# Altium schematic symbol library SCH - MCU - STM32 - ST MICROELECTRONICS STM32MP151DAAX LFBGA448.SchLib: 1 symbol
Pins are listed as number, name and electrical type; pins without a type are passive.

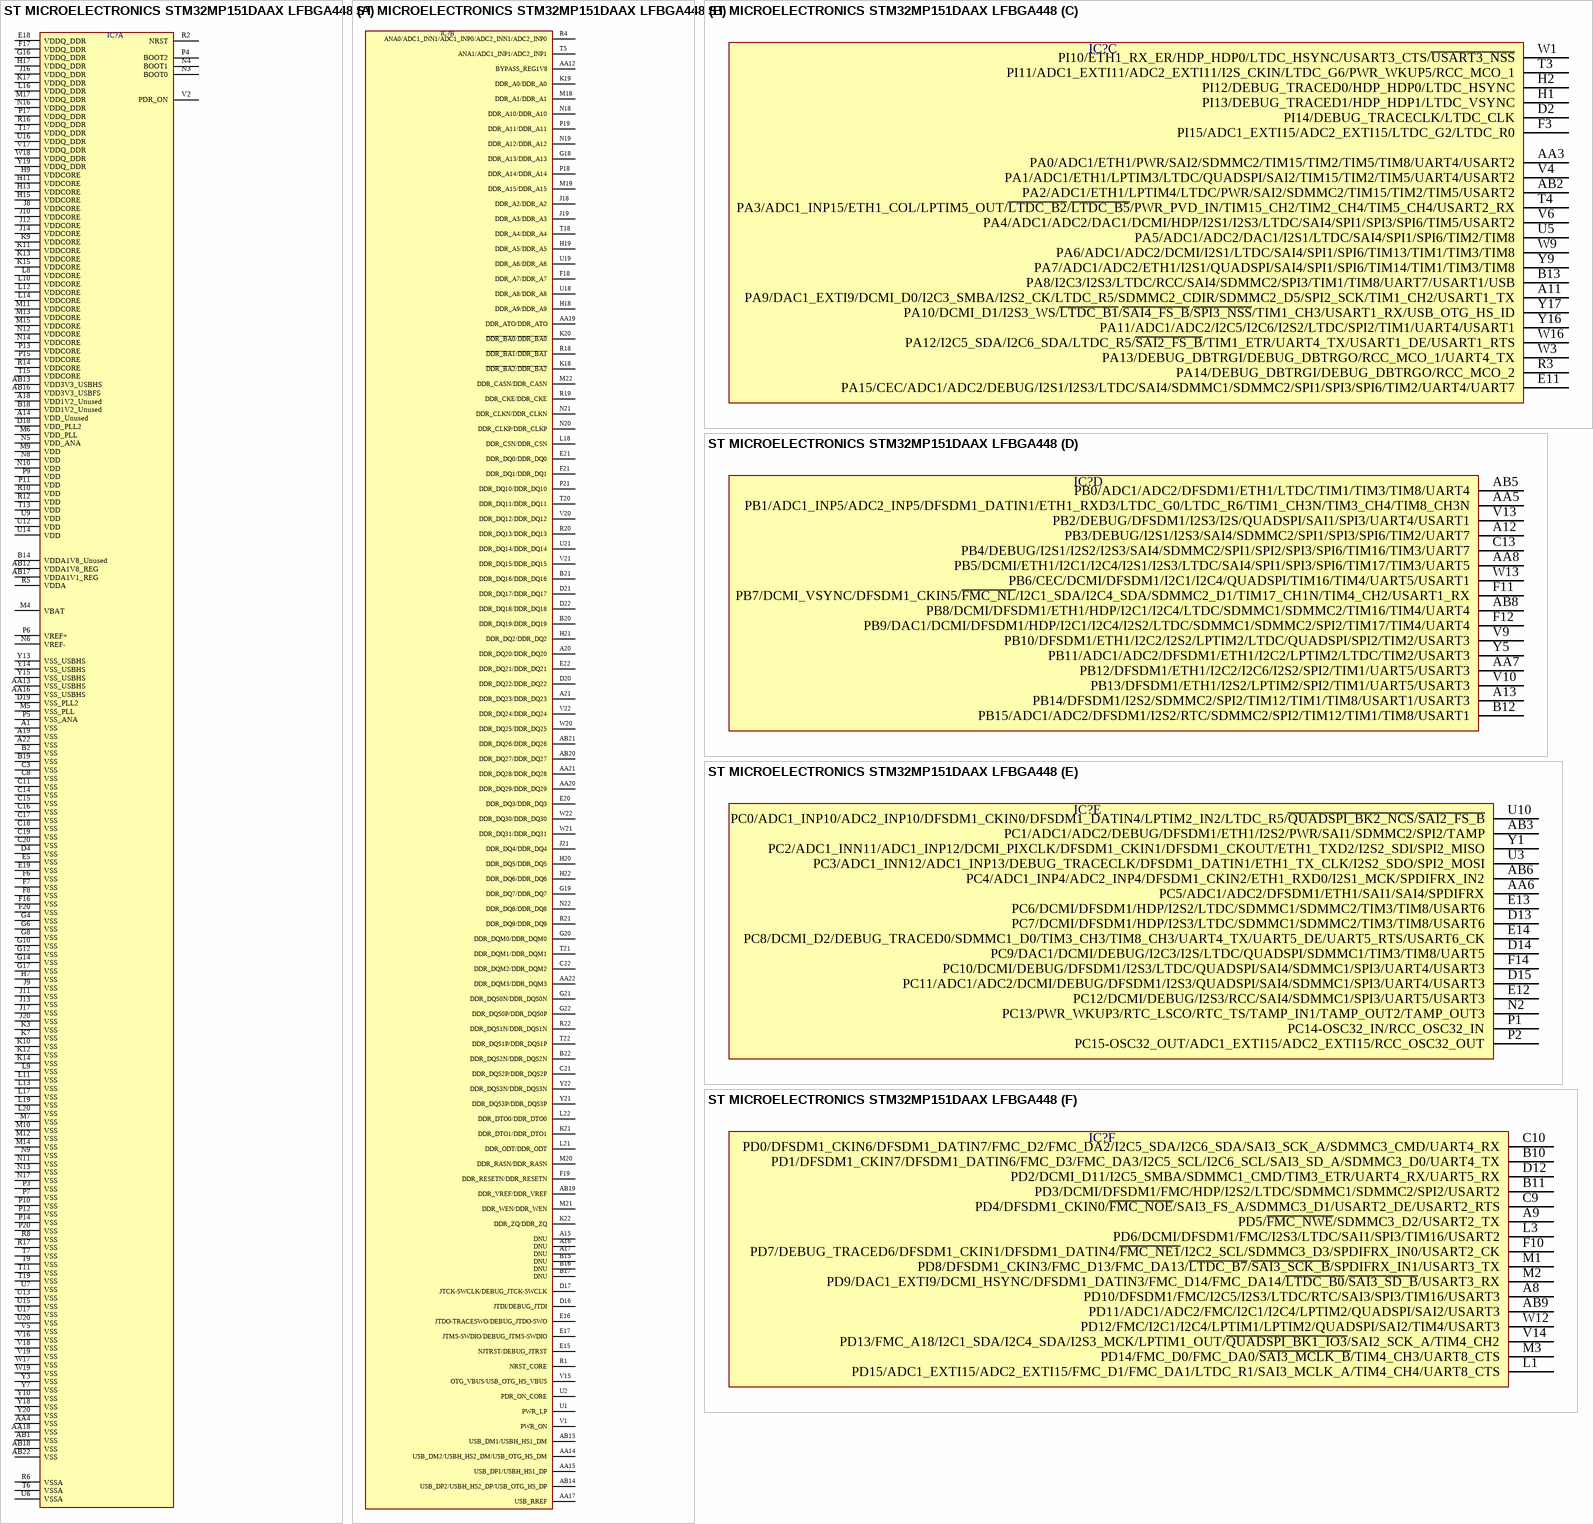
[diagram p0: symbol ST MICROELECTRONICS STM32MP151DAAX LFBGA448]

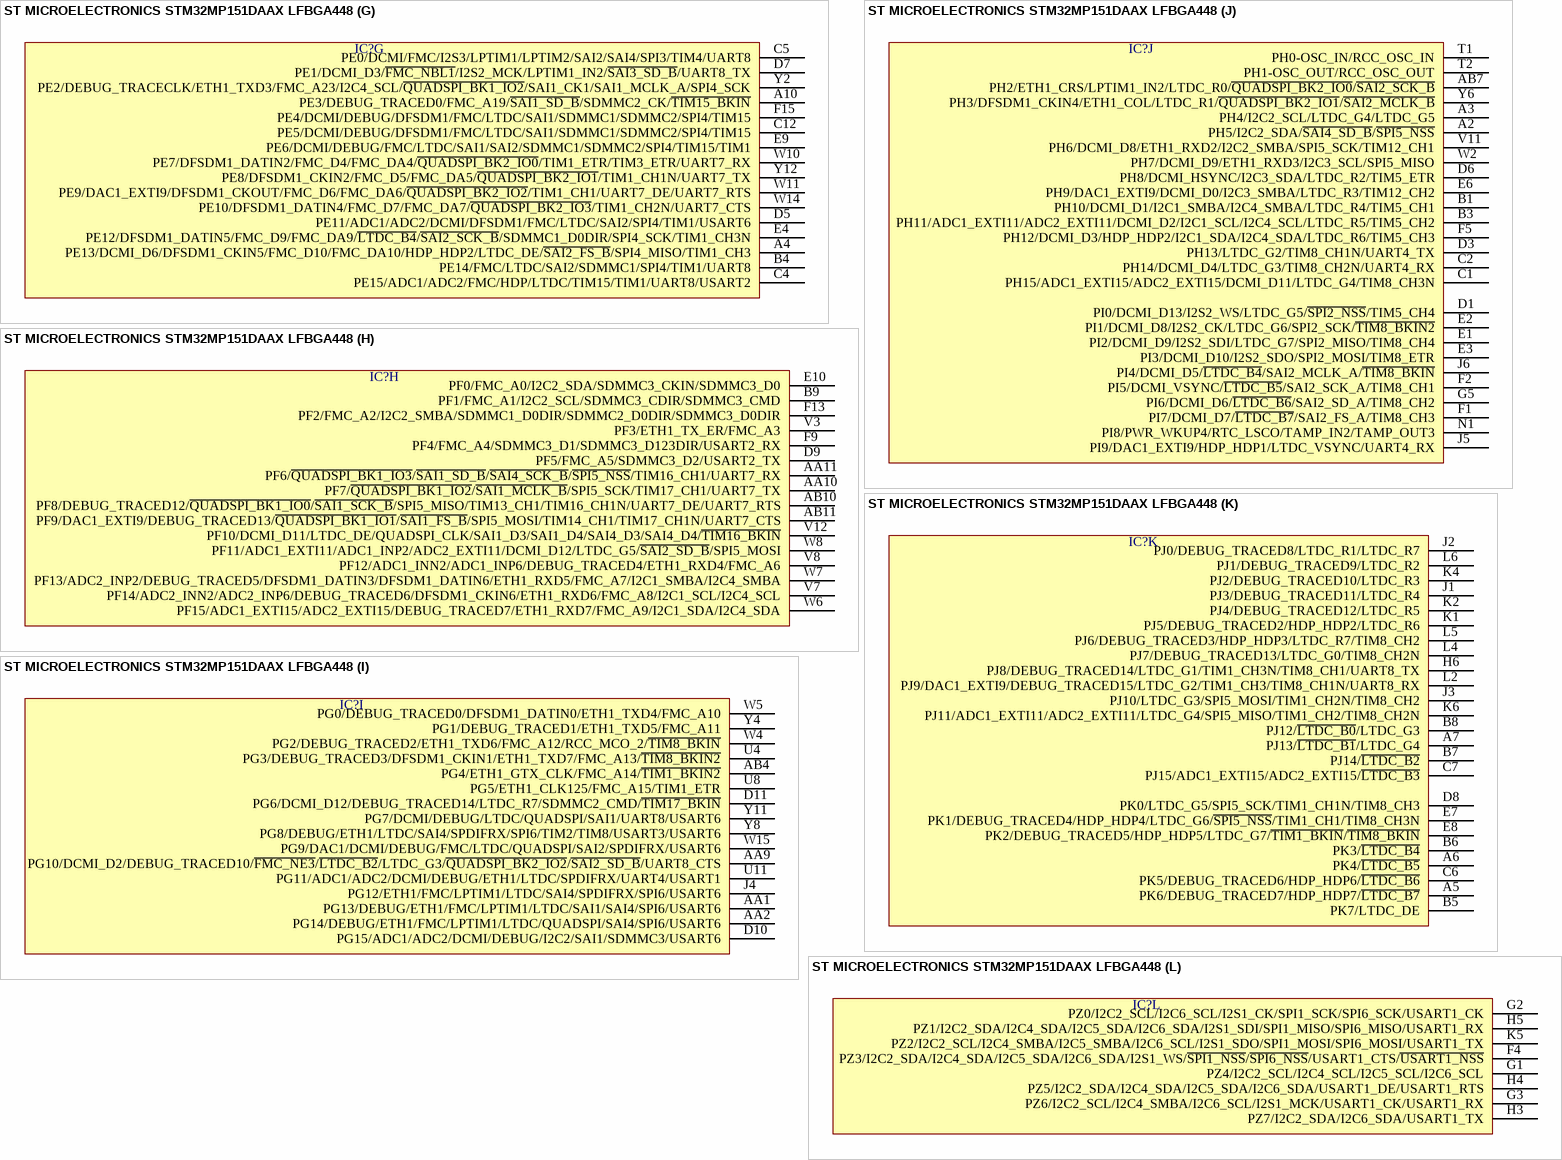
[diagram p1: symbol ST MICROELECTRONICS STM32MP151DAAX LFBGA448]

## ST MICROELECTRONICS STM32MP151DAAX LFBGA448
designator IC?  (value not drawn)
part A pins: A1 VSS, A14 VDD_Unused, A18 VDD1V2_Unused, A19 VSS, A22 VSS, AA4 VSS, AA13 VSS_USBHS, AA16 VSS_USBHS, AA18 VSS, AB1 VSS, AB12 VDDA1V8_REG, AB13 VDD3V3_USBHS, AB16 VDD3V3_USBFS, AB17 VDDA1V1_REG, AB18 VSS, AB22 VSS, B2 VSS, B14 VDDA1V8_Unused, B18 VDD1V2_Unused, B19 VSS, C3 VSS, C8 VSS, C11 VSS, C14 VSS, C15 VSS, C16 VSS, C17 VSS, C18 VSS, C19 VSS, C20 VSS, D4 VSS, D18 VDD_PLL2, D19 VSS_PLL2, E5 VSS, E18 VDDQ_DDR, E19 VSS, F6 VSS, F7 VSS, F8 VSS, F16 VSS, F17 VDDQ_DDR, F20 VSS, G4 VSS, G6 VSS, G8 VSS, G10 VSS, G12 VSS, G14 VSS, G16 VDDQ_DDR, G17 VSS, H7 VSS, H9 VDDCORE, H11 VDDCORE, H13 VDDCORE, H15 VDDCORE, H17 VDDQ_DDR, J8 VDDCORE, J9 VSS, J10 VDDCORE, J11 VSS, J12 VDDCORE, J13 VSS, J14 VDDCORE, J16 VDDQ_DDR, J17 VSS, J20 VSS, K3 VSS, K7 VSS, K9 VDDCORE, K10 VSS, K11 VDDCORE, K12 VSS, K13 VDDCORE, K14 VSS, K15 VDDCORE, K17 VDDQ_DDR, L8 VDDCORE, L9 VSS, L10 VDDCORE, L11 VSS, L12 VDDCORE, L13 VSS, L14 VDDCORE, L16 VDDQ_DDR, L17 VSS, L19 VSS, L20 VSS, M4 VBAT, M5 VSS_PLL, M6 VDD_PLL, M7 VSS, M9 VDD, M10 VSS, M11 VDDCORE, M12 VSS, M13 VDDCORE, M14 VSS, M15 VDDCORE, M17 VDDQ_DDR, N3 BOOT0, N4 BOOT1, N5 VDD_ANA, N6 VREF-, N8 VDD, N9 VSS, N10 VDD, N11 VSS, N12 VDDCORE, N13 VSS, N14 VDDCORE, N16 VDDQ_DDR, N17 VSS, P3 VSS, P4 BOOT2, P5 VSS_ANA, P6 VREF+, P7 VSS, P9 VDD, P10 VSS, P11 VDD, P12 VSS, P13 VDDCORE, P14 VSS, P15 VDDCORE, P17 VDDQ_DDR, P20 VSS, R2 NRST, R5 VDDA, R6 VSSA, R8 VSS, R10 VDD, R12 VDD, R14 VDDCORE, R16 VDDQ_DDR, R17 VSS, T6 VSSA, T7 VSS, T9 VSS, T11 VSS, T13 VDD, T15 VDDCORE, T17 VDDQ_DDR, T19 VSS, U6 VSSA, U7 VSS, U9 VDD, U12 VDD, U13 VSS, U14 VDD, U15 VSS, U16 VDDQ_DDR, U17 VSS, U20 VSS, V2 PDR_ON, V5 VSS, V16 VSS, V17 VDDQ_DDR, V18 VSS, V19 VSS, W17 VSS, W18 VDDQ_DDR, W19 VSS, Y3 VSS, Y7 VSS, Y10 VSS, Y13 VSS_USBHS, Y14 VSS_USBHS, Y15 VSS_USBHS, Y18 VSS, Y19 VDDQ_DDR, Y20 VSS
part B pins: A15 DNU, A16 DNU, A17 DNU, A20 DDR_DQ20/DDR_DQ20, A21 DDR_DQ23/DDR_DQ23, AA12 BYPASS_REG1V8, AA14 USB_DM2/USBH_HS2_DM/USB_OTG_HS_DM, AA15 USB_DP1/USBH_HS1_DP, AA17 USB_RREF, AA19 DDR_ATO/DDR_ATO, AA20 DDR_DQ29/DDR_DQ29, AA21 DDR_DQ28/DDR_DQ28, AA22 DDR_DQM3/DDR_DQM3, AB14 USB_DP2/USBH_HS2_DP/USB_OTG_HS_DP, AB15 USB_DM1/USBH_HS1_DM, AB19 DDR_VREF/DDR_VREF, AB20 DDR_DQ27/DDR_DQ27, AB21 DDR_DQ26/DDR_DQ26, B15 DNU, B16 DNU, B17 DNU, B20 DDR_DQ19/DDR_DQ19, B21 DDR_DQ16/DDR_DQ16, B22 DDR_DQS2N/DDR_DQS2N, C21 DDR_DQS2P/DDR_DQS2P, C22 DDR_DQM2/DDR_DQM2, D16 JTDI/DEBUG_JTDI, D17 JTCK-SWCLK/DEBUG_JTCK-SWCLK, D20 DDR_DQ22/DDR_DQ22, D21 DDR_DQ17/DDR_DQ17, D22 DDR_DQ18/DDR_DQ18, E15 NJTRST/DEBUG_JTRST, E16 JTDO-TRACESWO/DEBUG_JTDO-SWO, E17 JTMS-SWDIO/DEBUG_JTMS-SWDIO, E20 DDR_DQ3/DDR_DQ3, E21 DDR_DQ0/DDR_DQ0, E22 DDR_DQ21/DDR_DQ21, F18 DDR_A7/DDR_A7, F19 DDR_RESETN/DDR_RESETN, F21 DDR_DQ1/DDR_DQ1, G18 DDR_A13/DDR_A13, G19 DDR_DQ7/DDR_DQ7, G20 DDR_DQM0/DDR_DQM0, G21 DDR_DQS0N/DDR_DQS0N, G22 DDR_DQS0P/DDR_DQS0P, H18 DDR_A9/DDR_A9, H19 DDR_A5/DDR_A5, H20 DDR_DQ5/DDR_DQ5, H21 DDR_DQ2/DDR_DQ2, H22 DDR_DQ6/DDR_DQ6, J18 DDR_A2/DDR_A2, J19 DDR_A3/DDR_A3, J21 DDR_DQ4/DDR_DQ4, K18 ~{DDR_BA2}/~{DDR_BA2}, K19 DDR_A0/DDR_A0, K20 ~{DDR_BA0}/~{DDR_BA0}, K21 DDR_DTO1/DDR_DTO1, K22 DDR_ZQ/DDR_ZQ, L18 DDR_CSN/DDR_CSN, L21 DDR_ODT/DDR_ODT, L22 DDR_DTO0/DDR_DTO0, M18 DDR_A1/DDR_A1, M19 DDR_A15/DDR_A15, M20 DDR_RASN/DDR_RASN, M21 DDR_WEN/DDR_WEN, M22 DDR_CASN/DDR_CASN, N18 DDR_A10/DDR_A10, N19 DDR_A12/DDR_A12, N20 DDR_CLKP/DDR_CLKP, N21 DDR_CLKN/DDR_CLKN, N22 DDR_DQ8/DDR_DQ8, P18 DDR_A14/DDR_A14, P19 DDR_A11/DDR_A11, P21 DDR_DQ10/DDR_DQ10, R1 NRST_CORE, R4 ANA0/ADC1_INN1/ADC1_INP0/ADC2_INN1/ADC2_INP0, R18 ~{DDR_BA1}/~{DDR_BA1}, R19 DDR_CKE/DDR_CKE, R20 DDR_DQ13/DDR_DQ13, R21 DDR_DQ9/DDR_DQ9, R22 DDR_DQS1N/DDR_DQS1N, T5 ANA1/ADC1_INP1/ADC2_INP1, T18 DDR_A4/DDR_A4, T20 DDR_DQ11/DDR_DQ11, T21 DDR_DQM1/DDR_DQM1, T22 DDR_DQS1P/DDR_DQS1P, U1 PWR_LP, U2 PDR_ON_CORE, U18 DDR_A8/DDR_A8, U19 DDR_A6/DDR_A6, U21 DDR_DQ14/DDR_DQ14, V1 PWR_ON, V15 OTG_VBUS/USB_OTG_HS_VBUS, V20 DDR_DQ12/DDR_DQ12, V21 DDR_DQ15/DDR_DQ15, V22 DDR_DQ24/DDR_DQ24, W20 DDR_DQ25/DDR_DQ25, W21 DDR_DQ31/DDR_DQ31, W22 DDR_DQ30/DDR_DQ30, Y21 DDR_DQS3P/DDR_DQS3P, Y22 DDR_DQS3N/DDR_DQS3N
part C pins: A11 PA9/DAC1_EXTI9/DCMI_D0/I2C3_SMBA/I2S2_CK/LTDC_R5/SDMMC2_CDIR/SDMMC2_D5/SPI2_SCK/TIM1_CH2/USART1_TX, AA3 PA0/ADC1/ETH1/PWR/SAI2/SDMMC2/TIM15/TIM2/TIM5/TIM8/UART4/USART2, AB2 PA2/ADC1/ETH1/LPTIM4/LTDC/PWR/SAI2/SDMMC2/TIM15/TIM2/TIM5/USART2, B13 PA8/I2C3/I2S3/LTDC/RCC/SAI4/SDMMC2/SPI3/TIM1/TIM8/UART7/USART1/USB, D2 PI14/DEBUG_TRACECLK/LTDC_CLK, E11 PA15/CEC/ADC1/ADC2/DEBUG/I2S1/I2S3/LTDC/SAI4/SDMMC1/SDMMC2/SPI1/SPI3/SPI6/TIM2/UART4/UART7, F3 PI15/ADC1_EXTI15/ADC2_EXTI15/LTDC_G2/LTDC_R0, H1 PI13/DEBUG_TRACED1/HDP_HDP1/LTDC_VSYNC, H2 PI12/DEBUG_TRACED0/HDP_HDP0/LTDC_HSYNC, R3 PA14/DEBUG_DBTRGI/DEBUG_DBTRGO/RCC_MCO_2, T3 PI11/ADC1_EXTI11/ADC2_EXTI11/I2S_CKIN/LTDC_G6/PWR_WKUP5/RCC_MCO_1, T4 PA3/ADC1_INP15/ETH1_COL/LPTIM5_OUT/~{LTDC_B2}/~{LTDC_B5}/PWR_PVD_IN/TIM15_CH2/TIM2_CH4/TIM5_CH4/USART2_RX, U5 PA5/ADC1/ADC2/DAC1/I2S1/LTDC/SAI4/SPI1/SPI6/TIM2/TIM8, V4 PA1/ADC1/ETH1/LPTIM3/LTDC/QUADSPI/SAI2/TIM15/TIM2/TIM5/UART4/USART2, V6 PA4/ADC1/ADC2/DAC1/DCMI/HDP/I2S1/I2S3/LTDC/SAI4/SPI1/SPI3/SPI6/TIM5/USART2, W1 PI10/ETH1_RX_ER/HDP_HDP0/LTDC_HSYNC/USART3_CTS/~{USART3_NSS}, W3 PA13/DEBUG_DBTRGI/DEBUG_DBTRGO/RCC_MCO_1/UART4_TX, W9 PA6/ADC1/ADC2/DCMI/I2S1/LTDC/SAI4/SPI1/SPI6/TIM13/TIM1/TIM3/TIM8, W16 PA12/I2C5_SDA/I2C6_SDA/LTDC_R5/~{SAI2_FS_B}/TIM1_ETR/UART4_TX/USART1_DE/USART1_RTS, Y9 PA7/ADC1/ADC2/ETH1/I2S1/QUADSPI/SAI4/SPI1/SPI6/TIM14/TIM1/TIM3/TIM8, Y16 PA11/ADC1/ADC2/I2C5/I2C6/I2S2/LTDC/SPI2/TIM1/UART4/USART1, Y17 PA10/DCMI_D1/I2S3_WS/~{LTDC_B1}/~{SAI4_FS_B}/~{SPI3_NSS}/TIM1_CH3/USART1_RX/USB_OTG_HS_ID
part D pins: A12 PB3/DEBUG/I2S1/I2S3/SAI4/SDMMC2/SPI1/SPI3/SPI6/TIM2/UART7, A13 PB14/DFSDM1/I2S2/SDMMC2/SPI2/TIM12/TIM1/TIM8/USART1/USART3, AA5 PB1/ADC1_INP5/ADC2_INP5/DFSDM1_DATIN1/ETH1_RXD3/LTDC_G0/LTDC_R6/TIM1_CH3N/TIM3_CH4/TIM8_CH3N, AA7 PB12/DFSDM1/ETH1/I2C2/I2C6/I2S2/SPI2/TIM1/UART5/USART3, AA8 PB5/DCMI/ETH1/I2C1/I2C4/I2S1/I2S3/LTDC/SAI4/SPI1/SPI3/SPI6/TIM17/TIM3/UART5, AB5 PB0/ADC1/ADC2/DFSDM1/ETH1/LTDC/TIM1/TIM3/TIM8/UART4, AB8 PB8/DCMI/DFSDM1/ETH1/HDP/I2C1/I2C4/LTDC/SDMMC1/SDMMC2/TIM16/TIM4/UART4, B12 PB15/ADC1/ADC2/DFSDM1/I2S2/RTC/SDMMC2/SPI2/TIM12/TIM1/TIM8/USART1, C13 PB4/DEBUG/I2S1/I2S2/I2S3/SAI4/SDMMC2/SPI1/SPI2/SPI3/SPI6/TIM16/TIM3/UART7, F11 PB7/DCMI_VSYNC/DFSDM1_CKIN5/~{FMC_NL}/I2C1_SDA/I2C4_SDA/SDMMC2_D1/TIM17_CH1N/TIM4_CH2/USART1_RX, F12 PB9/DAC1/DCMI/DFSDM1/HDP/I2C1/I2C4/I2S2/LTDC/SDMMC1/SDMMC2/SPI2/TIM17/TIM4/UART4, V9 PB10/DFSDM1/ETH1/I2C2/I2S2/LPTIM2/LTDC/QUADSPI/SPI2/TIM2/USART3, V10 PB13/DFSDM1/ETH1/I2S2/LPTIM2/SPI2/TIM1/UART5/USART3, V13 PB2/DEBUG/DFSDM1/I2S3/I2S/QUADSPI/SAI1/SPI3/UART4/USART1, W13 PB6/CEC/DCMI/DFSDM1/I2C1/I2C4/QUADSPI/TIM16/TIM4/UART5/USART1, Y5 PB11/ADC1/ADC2/DFSDM1/ETH1/I2C2/LPTIM2/LTDC/TIM2/USART3
part E pins: AA6 PC5/ADC1/ADC2/DFSDM1/ETH1/SAI1/SAI4/SPDIFRX, AB3 PC1/ADC1/ADC2/DEBUG/DFSDM1/ETH1/I2S2/PWR/SAI1/SDMMC2/SPI2/TAMP, AB6 PC4/ADC1_INP4/ADC2_INP4/DFSDM1_CKIN2/ETH1_RXD0/I2S1_MCK/SPDIFRX_IN2, D13 PC7/DCMI/DFSDM1/HDP/I2S3/LTDC/SDMMC1/SDMMC2/TIM3/TIM8/USART6, D14 PC9/DAC1/DCMI/DEBUG/I2C3/I2S/LTDC/QUADSPI/SDMMC1/TIM3/TIM8/UART5, D15 PC11/ADC1/ADC2/DCMI/DEBUG/DFSDM1/I2S3/QUADSPI/SAI4/SDMMC1/SPI3/UART4/USART3, E12 PC12/DCMI/DEBUG/I2S3/RCC/SAI4/SDMMC1/SPI3/UART5/USART3, E13 PC6/DCMI/DFSDM1/HDP/I2S2/LTDC/SDMMC1/SDMMC2/TIM3/TIM8/USART6, E14 PC8/DCMI_D2/DEBUG_TRACED0/SDMMC1_D0/TIM3_CH3/TIM8_CH3/UART4_TX/UART5_DE/UART5_RTS/USART6_CK, F14 PC10/DCMI/DEBUG/DFSDM1/I2S3/LTDC/QUADSPI/SAI4/SDMMC1/SPI3/UART4/USART3, N2 PC13/PWR_WKUP3/RTC_LSCO/RTC_TS/TAMP_IN1/TAMP_OUT2/TAMP_OUT3, P1 PC14-OSC32_IN/RCC_OSC32_IN, P2 PC15-OSC32_OUT/ADC1_EXTI15/ADC2_EXTI15/RCC_OSC32_OUT, U3 PC3/ADC1_INN12/ADC1_INP13/DEBUG_TRACECLK/DFSDM1_DATIN1/ETH1_TX_CLK/I2S2_SDO/SPI2_MOSI, U10 PC0/ADC1_INP10/ADC2_INP10/DFSDM1_CKIN0/DFSDM1_DATIN4/LPTIM2_IN2/LTDC_R5/~{QUADSPI_BK2_NCS}/~{SAI2_FS_B}, Y1 PC2/ADC1_INN11/ADC1_INP12/DCMI_PIXCLK/DFSDM1_CKIN1/DFSDM1_CKOUT/ETH1_TXD2/I2S2_SDI/SPI2_MISO
part F pins: A8 PD10/DFSDM1/FMC/I2C5/I2S3/LTDC/RTC/SAI3/SPI3/TIM16/USART3, A9 PD5/~{FMC_NWE}/SDMMC3_D2/USART2_TX, AB9 PD11/ADC1/ADC2/FMC/I2C1/I2C4/LPTIM2/QUADSPI/SAI2/USART3, B10 PD1/DFSDM1_CKIN7/DFSDM1_DATIN6/FMC_D3/FMC_DA3/I2C5_SCL/I2C6_SCL/SAI3_SD_A/SDMMC3_D0/UART4_TX, B11 PD3/DCMI/DFSDM1/FMC/HDP/I2S2/LTDC/SDMMC1/SDMMC2/SPI2/USART2, C9 PD4/DFSDM1_CKIN0/~{FMC_NOE}/SAI3_FS_A/SDMMC3_D1/USART2_DE/USART2_RTS, C10 PD0/DFSDM1_CKIN6/DFSDM1_DATIN7/FMC_D2/FMC_DA2/I2C5_SDA/I2C6_SDA/SAI3_SCK_A/SDMMC3_CMD/UART4_RX, D12 PD2/DCMI_D11/I2C5_SMBA/SDMMC1_CMD/TIM3_ETR/UART4_RX/UART5_RX, F10 PD7/DEBUG_TRACED6/DFSDM1_CKIN1/DFSDM1_DATIN4/~{FMC_NE1}/I2C2_SCL/SDMMC3_D3/SPDIFRX_IN0/USART2_CK, L1 PD15/ADC1_EXTI15/ADC2_EXTI15/FMC_D1/FMC_DA1/LTDC_R1/SAI3_MCLK_A/TIM4_CH4/UART8_CTS, L3 PD6/DCMI/DFSDM1/FMC/I2S3/LTDC/SAI1/SPI3/TIM16/USART2, M1 PD8/DFSDM1_CKIN3/FMC_D13/FMC_DA13/~{LTDC_B7}/~{SAI3_SCK_B}/SPDIFRX_IN1/USART3_TX, M2 PD9/DAC1_EXTI9/DCMI_HSYNC/DFSDM1_DATIN3/FMC_D14/FMC_DA14/~{LTDC_B0}/~{SAI3_SD_B}/USART3_RX, M3 PD14/FMC_D0/FMC_DA0/~{SAI3_MCLK_B}/TIM4_CH3/UART8_CTS, V14 PD13/FMC_A18/I2C1_SDA/I2C4_SDA/I2S3_MCK/LPTIM1_OUT/~{QUADSPI_BK1_IO3}/SAI2_SCK_A/TIM4_CH2, W12 PD12/FMC/I2C1/I2C4/LPTIM1/LPTIM2/QUADSPI/SAI2/TIM4/USART3
part G pins: A4 PE13/DCMI_D6/DFSDM1_CKIN5/FMC_D10/FMC_DA10/HDP_HDP2/LTDC_DE/~{SAI2_FS_B}/SPI4_MISO/TIM1_CH3, A10 PE3/DEBUG_TRACED0/FMC_A19/~{SAI1_SD_B}/SDMMC2_CK/~{TIM15_BKIN}, B4 PE14/FMC/LTDC/SAI2/SDMMC1/SPI4/TIM1/UART8, C4 PE15/ADC1/ADC2/FMC/HDP/LTDC/TIM15/TIM1/UART8/USART2, C5 PE0/DCMI/FMC/I2S3/LPTIM1/LPTIM2/SAI2/SAI4/SPI3/TIM4/UART8, C12 PE5/DCMI/DEBUG/DFSDM1/FMC/LTDC/SAI1/SDMMC1/SDMMC2/SPI4/TIM15, D5 PE11/ADC1/ADC2/DCMI/DFSDM1/FMC/LTDC/SAI2/SPI4/TIM1/USART6, D7 PE1/DCMI_D3/~{FMC_NBL1}/I2S2_MCK/LPTIM1_IN2/~{SAI3_SD_B}/UART8_TX, E4 PE12/DFSDM1_DATIN5/FMC_D9/FMC_DA9/~{LTDC_B4}/~{SAI2_SCK_B}/SDMMC1_D0DIR/SPI4_SCK/TIM1_CH3N, E9 PE6/DCMI/DEBUG/FMC/LTDC/SAI1/SAI2/SDMMC1/SDMMC2/SPI4/TIM15/TIM1, F15 PE4/DCMI/DEBUG/DFSDM1/FMC/LTDC/SAI1/SDMMC1/SDMMC2/SPI4/TIM15, W10 PE7/DFSDM1_DATIN2/FMC_D4/FMC_DA4/~{QUADSPI_BK2_IO0}/TIM1_ETR/TIM3_ETR/UART7_RX, W11 PE9/DAC1_EXTI9/DFSDM1_CKOUT/FMC_D6/FMC_DA6/~{QUADSPI_BK2_IO2}/TIM1_CH1/UART7_DE/UART7_RTS, W14 PE10/DFSDM1_DATIN4/FMC_D7/FMC_DA7/~{QUADSPI_BK2_IO3}/TIM1_CH2N/UART7_CTS, Y2 PE2/DEBUG_TRACECLK/ETH1_TXD3/FMC_A23/I2C4_SCL/~{QUADSPI_BK1_IO2}/SAI1_CK1/SAI1_MCLK_A/SPI4_SCK, Y12 PE8/DFSDM1_CKIN2/FMC_D5/FMC_DA5/~{QUADSPI_BK2_IO1}/TIM1_CH1N/UART7_TX
part H pins: AA10 PF7/~{QUADSPI_BK1_IO2}/~{SAI1_MCLK_B}/SPI5_SCK/TIM17_CH1/UART7_TX, AA11 PF6/~{QUADSPI_BK1_IO3}/~{SAI1_SD_B}/~{SAI4_SCK_B}/~{SPI5_NSS}/TIM16_CH1/UART7_RX, AB10 PF8/DEBUG_TRACED12/~{QUADSPI_BK1_IO0}/~{SAI1_SCK_B}/SPI5_MISO/TIM13_CH1/TIM16_CH1N/UART7_DE/UART7_RTS, AB11 PF9/DAC1_EXTI9/DEBUG_TRACED13/~{QUADSPI_BK1_IO1}/~{SAI1_FS_B}/SPI5_MOSI/TIM14_CH1/TIM17_CH1N/UART7_CTS, B9 PF1/FMC_A1/I2C2_SCL/SDMMC3_CDIR/SDMMC3_CMD, D9 PF5/FMC_A5/SDMMC3_D2/USART2_TX, E10 PF0/FMC_A0/I2C2_SDA/SDMMC3_CKIN/SDMMC3_D0, F9 PF4/FMC_A4/SDMMC3_D1/SDMMC3_D123DIR/USART2_RX, F13 PF2/FMC_A2/I2C2_SMBA/SDMMC1_D0DIR/SDMMC2_D0DIR/SDMMC3_D0DIR, V3 PF3/ETH1_TX_ER/FMC_A3, V7 PF14/ADC2_INN2/ADC2_INP6/DEBUG_TRACED6/DFSDM1_CKIN6/ETH1_RXD6/FMC_A8/I2C1_SCL/I2C4_SCL, V8 PF12/ADC1_INN2/ADC1_INP6/DEBUG_TRACED4/ETH1_RXD4/FMC_A6, V12 PF10/DCMI_D11/LTDC_DE/QUADSPI_CLK/SAI1_D3/SAI1_D4/SAI4_D3/SAI4_D4/~{TIM16_BKIN}, W6 PF15/ADC1_EXTI15/ADC2_EXTI15/DEBUG_TRACED7/ETH1_RXD7/FMC_A9/I2C1_SDA/I2C4_SDA, W7 PF13/ADC2_INP2/DEBUG_TRACED5/DFSDM1_DATIN3/DFSDM1_DATIN6/ETH1_RXD5/FMC_A7/I2C1_SMBA/I2C4_SMBA, W8 PF11/ADC1_EXTI11/ADC1_INP2/ADC2_EXTI11/DCMI_D12/LTDC_G5/~{SAI2_SD_B}/SPI5_MOSI
part I pins: AA1 PG13/DEBUG/ETH1/FMC/LPTIM1/LTDC/SAI1/SAI4/SPI6/USART6, AA2 PG14/DEBUG/ETH1/FMC/LPTIM1/LTDC/QUADSPI/SAI4/SPI6/USART6, AA9 PG10/DCMI_D2/DEBUG_TRACED10/~{FMC_NE3}/~{LTDC_B2}/LTDC_G3/~{QUADSPI_BK2_IO2}/~{SAI2_SD_B}/UART8_CTS, AB4 PG4/ETH1_GTX_CLK/FMC_A14/~{TIM1_BKIN2}, D10 PG15/ADC1/ADC2/DCMI/DEBUG/I2C2/SAI1/SDMMC3/USART6, D11 PG6/DCMI_D12/DEBUG_TRACED14/LTDC_R7/SDMMC2_CMD/~{TIM17_BKIN}, J4 PG12/ETH1/FMC/LPTIM1/LTDC/SAI4/SPDIFRX/SPI6/USART6, U4 PG3/DEBUG_TRACED3/DFSDM1_CKIN1/ETH1_TXD7/FMC_A13/~{TIM8_BKIN2}, U8 PG5/ETH1_CLK125/FMC_A15/TIM1_ETR, U11 PG11/ADC1/ADC2/DCMI/DEBUG/ETH1/LTDC/SPDIFRX/UART4/USART1, W4 PG2/DEBUG_TRACED2/ETH1_TXD6/FMC_A12/RCC_MCO_2/~{TIM8_BKIN}, W5 PG0/DEBUG_TRACED0/DFSDM1_DATIN0/ETH1_TXD4/FMC_A10, W15 PG9/DAC1/DCMI/DEBUG/FMC/LTDC/QUADSPI/SAI2/SPDIFRX/USART6, Y4 PG1/DEBUG_TRACED1/ETH1_TXD5/FMC_A11, Y8 PG8/DEBUG/ETH1/LTDC/SAI4/SPDIFRX/SPI6/TIM2/TIM8/USART3/USART6, Y11 PG7/DCMI/DEBUG/LTDC/QUADSPI/SAI1/UART8/USART6
part J pins: A2 PH5/I2C2_SDA/~{SAI4_SD_B}/~{SPI5_NSS}, A3 PH4/I2C2_SCL/LTDC_G4/LTDC_G5, AB7 PH2/ETH1_CRS/LPTIM1_IN2/LTDC_R0/~{QUADSPI_BK2_IO0}/~{SAI2_SCK_B}, B1 PH10/DCMI_D1/I2C1_SMBA/I2C4_SMBA/LTDC_R4/TIM5_CH1, B3 PH11/ADC1_EXTI11/ADC2_EXTI11/DCMI_D2/I2C1_SCL/I2C4_SCL/LTDC_R5/TIM5_CH2, C1 PH15/ADC1_EXTI15/ADC2_EXTI15/DCMI_D11/LTDC_G4/TIM8_CH3N, C2 PH14/DCMI_D4/LTDC_G3/TIM8_CH2N/UART4_RX, D1 PI0/DCMI_D13/I2S2_WS/LTDC_G5/~{SPI2_NSS}/TIM5_CH4, D3 PH13/LTDC_G2/TIM8_CH1N/UART4_TX, D6 PH8/DCMI_HSYNC/I2C3_SDA/LTDC_R2/TIM5_ETR, E1 PI2/DCMI_D9/I2S2_SDI/LTDC_G7/SPI2_MISO/TIM8_CH4, E2 PI1/DCMI_D8/I2S2_CK/LTDC_G6/SPI2_SCK/~{TIM8_BKIN2}, E3 PI3/DCMI_D10/I2S2_SDO/SPI2_MOSI/TIM8_ETR, E6 PH9/DAC1_EXTI9/DCMI_D0/I2C3_SMBA/LTDC_R3/TIM12_CH2, F1 PI7/DCMI_D7/~{LTDC_B7}/SAI2_FS_A/TIM8_CH3, F2 PI5/DCMI_VSYNC/~{LTDC_B5}/SAI2_SCK_A/TIM8_CH1, F5 PH12/DCMI_D3/HDP_HDP2/I2C1_SDA/I2C4_SDA/LTDC_R6/TIM5_CH3, G5 PI6/DCMI_D6/~{LTDC_B6}/SAI2_SD_A/TIM8_CH2, J5 PI9/DAC1_EXTI9/HDP_HDP1/LTDC_VSYNC/UART4_RX, J6 PI4/DCMI_D5/~{LTDC_B4}/SAI2_MCLK_A/~{TIM8_BKIN}, N1 PI8/PWR_WKUP4/RTC_LSCO/TAMP_IN2/TAMP_OUT3, T1 PH0-OSC_IN/RCC_OSC_IN, T2 PH1-OSC_OUT/RCC_OSC_OUT, V11 PH6/DCMI_D8/ETH1_RXD2/I2C2_SMBA/SPI5_SCK/TIM12_CH1, W2 PH7/DCMI_D9/ETH1_RXD3/I2C3_SCL/SPI5_MISO, Y6 PH3/DFSDM1_CKIN4/ETH1_COL/LTDC_R1/~{QUADSPI_BK2_IO1}/~{SAI2_MCLK_B}
part K pins: A5 PK6/DEBUG_TRACED7/HDP_HDP7/~{LTDC_B7}, A6 PK4/~{LTDC_B5}, A7 PJ13/~{LTDC_B1}/LTDC_G4, B5 PK7/LTDC_DE, B6 PK3/~{LTDC_B4}, B7 PJ14/~{LTDC_B2}, B8 PJ12/~{LTDC_B0}/LTDC_G3, C6 PK5/DEBUG_TRACED6/HDP_HDP6/~{LTDC_B6}, C7 PJ15/ADC1_EXTI15/ADC2_EXTI15/~{LTDC_B3}, D8 PK0/LTDC_G5/SPI5_SCK/TIM1_CH1N/TIM8_CH3, E7 PK1/DEBUG_TRACED4/HDP_HDP4/LTDC_G6/~{SPI5_NSS}/TIM1_CH1/TIM8_CH3N, E8 PK2/DEBUG_TRACED5/HDP_HDP5/LTDC_G7/~{TIM1_BKIN}/~{TIM8_BKIN}, H6 PJ8/DEBUG_TRACED14/LTDC_G1/TIM1_CH3N/TIM8_CH1/UART8_TX, J1 PJ3/DEBUG_TRACED11/LTDC_R4, J2 PJ0/DEBUG_TRACED8/LTDC_R1/LTDC_R7, J3 PJ10/LTDC_G3/SPI5_MOSI/TIM1_CH2N/TIM8_CH2, K1 PJ5/DEBUG_TRACED2/HDP_HDP2/LTDC_R6, K2 PJ4/DEBUG_TRACED12/LTDC_R5, K4 PJ2/DEBUG_TRACED10/LTDC_R3, K6 PJ11/ADC1_EXTI11/ADC2_EXTI11/LTDC_G4/SPI5_MISO/TIM1_CH2/TIM8_CH2N, L2 PJ9/DAC1_EXTI9/DEBUG_TRACED15/LTDC_G2/TIM1_CH3/TIM8_CH1N/UART8_RX, L4 PJ7/DEBUG_TRACED13/LTDC_G0/TIM8_CH2N, L5 PJ6/DEBUG_TRACED3/HDP_HDP3/LTDC_R7/TIM8_CH2, L6 PJ1/DEBUG_TRACED9/LTDC_R2
part L pins: F4 PZ3/I2C2_SDA/I2C4_SDA/I2C5_SDA/I2C6_SDA/I2S1_WS/~{SPI1_NSS}/~{SPI6_NSS}/USART1_CTS/~{USART1_NSS}, G1 PZ4/I2C2_SCL/I2C4_SCL/I2C5_SCL/I2C6_SCL, G2 PZ0/I2C2_SCL/I2C6_SCL/I2S1_CK/SPI1_SCK/SPI6_SCK/USART1_CK, G3 PZ6/I2C2_SCL/I2C4_SMBA/I2C6_SCL/I2S1_MCK/USART1_CK/USART1_RX, H3 PZ7/I2C2_SDA/I2C6_SDA/USART1_TX, H4 PZ5/I2C2_SDA/I2C4_SDA/I2C5_SDA/I2C6_SDA/USART1_DE/USART1_RTS, H5 PZ1/I2C2_SDA/I2C4_SDA/I2C5_SDA/I2C6_SDA/I2S1_SDI/SPI1_MISO/SPI6_MISO/USART1_RX, K5 PZ2/I2C2_SCL/I2C4_SMBA/I2C5_SMBA/I2C6_SCL/I2S1_SDO/SPI1_MOSI/SPI6_MOSI/USART1_TX